# Altium schematic symbol library Schlib1.SchLib: 42 symbols (part 1 of 2)
Pins are listed as number, name and electrical type; pins without a type are passive.

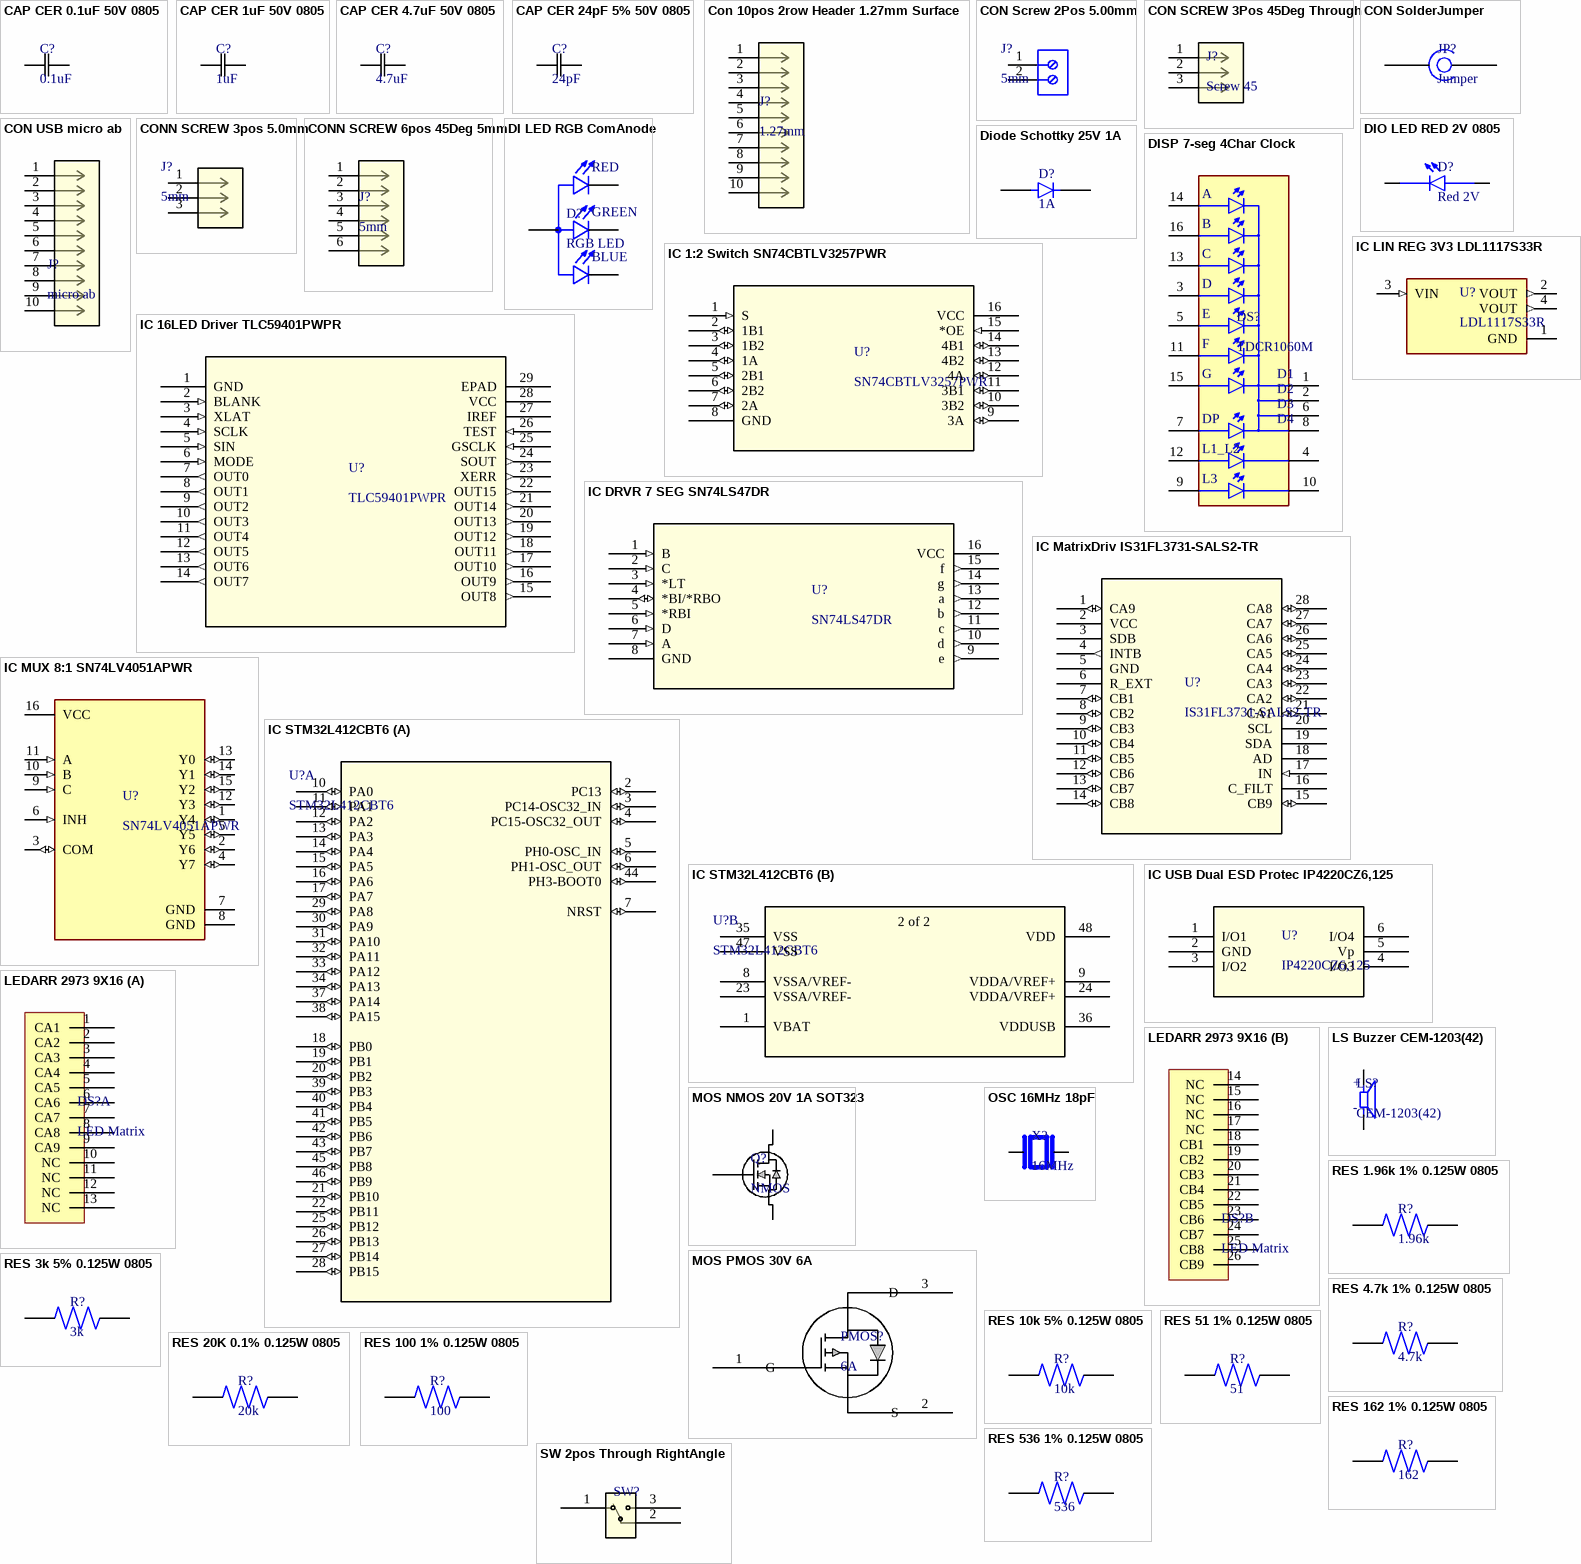
[diagram p0: symbols CAP CER 0.1uF 50V 0805 to SW 2pos Through RightAngle]

## CAP CER 0.1uF 50V 0805
designator C?, comment 0.1uF
Ceramic Capacitor, Multilayer, Ceramic, 50V, 10% +Tol, 10% -Tol, X7R, 15% TC, 0.1uF, Surface Mount, 0805; Manufacturer: Yageo; Manufacturer Part Number: CC0805KRX7R9BB104; Value: 100nF; Multilayer: Yes; Supplier: Digikey; Supplier Part Number: 311-1140-1-ND; RoHS: Yes; Category: Ceramic Capacitors; Stock: 2043650; Pricing: 1=0.08, 10=0.027, 100=0.0192, 1000=0.0136 (USD); Mounting Technology: Surface Mount; Pins: 2; Dielectric Material: Ceramic; Package Shape: Rectangular; Case/Package: 0805; Terminal Finish: Nickel; Min Operating Temperature: -55°C; Max Operating Temperature: 125°C; JESD-609 Code: e3; Capacitor Type: Ceramic; Tolerance  (fill in as +-): 10%; Package Style: SMTMeter; Packaging: Tape and Reel; Tolerance (fill in as +-): 10%; Rated DC Voltage (URdc): 50V; Temperature Characteristics Code: X7R; Termination: Wraparound; Length: 2mm; Width: 1.25mm; Height: 0.85mm; Reach SVHC Compliant: Yes; RoHS Compliant: Yes; ComponentLink1URL: https://datasheet.ciiva.com:443/pdfs/VipMasterIC/IC/YAGO/YAGO-S-A0003557223/YAGO-S-A0003557223-1.pdf?src-supplier=IHS+Markit; ComponentLink1Description: https://datasheet.ciiva.com:443/pdfs/VipMasterIC/IC/YAGO/YAGO-S-A0003557223/YAGO-S-A0003557223-1.pdf?src-supplier=IHS+Markit; ComponentLink2URL: https://datasheet.ciiva.com/11786/0900766b80d84f1d-11786009.pdf?src-supplier=Rs; ComponentLink2Description: https://datasheet.ciiva.com/11786/0900766b80d84f1d-11786009.pdf?src-supplier=Rs; ComponentLink3URL: https://datasheet.ciiva.com/11464/upy-gphc-x7r-6-3v-to-50v-8-11464757.pdf?src-supplier=Avnet; ComponentLink3Description: https://datasheet.ciiva.com/11464/upy-gphc-x7r-6-3v-to-50v-8-11464757.pdf?src-supplier=Avnet; ComponentLink4URL: https://datasheet.ciiva.com/155/mlccorderingcode-155930.pdf?src-supplier=Digikey; ComponentLink4Description: https://datasheet.ciiva.com/155/mlccorderingcode-155930.pdf?src-supplier=Digikey; ComponentLink5URL: https://datasheet.ciiva.com/28450/1489800-28450805.pdf?src-supplier=Element14; ComponentLink5Description: https://datasheet.ciiva.com/28450/1489800-28450805.pdf?src-supplier=Element14; ComponentLink6URL: https://datasheet.ciiva.com/46393/1734573-46393307.pdf?src-supplier=Element14; ComponentLink6Description: https://datasheet.ciiva.com/46393/1734573-46393307.pdf?src-supplier=Element14; ComponentLink7URL: https://datasheet.ciiva.com/155/mlccorderingcode-155929.pdf?src-supplier=Digikey; ComponentLink7Description: https://datasheet.ciiva.com/155/mlccorderingcode-155929.pdf?src-supplier=Digikey; ComponentLink8URL: https://datasheet.ciiva.com/155/mlccorderingcode-155931.pdf?src-supplier=Digikey; ComponentLink8Description: https://datasheet.ciiva.com/155/mlccorderingcode-155931.pdf?src-supplier=Digikey; ComponentLink9URL: https://datasheet.ciiva.com/29242/445210-da-01-en-kerko-chip-0805-x7r-0-1uf-10proz-50vg-29242074.pdf?src-supplier=Conrad; ComponentLink9Description: https://datasheet.ciiva.com/29242/445210-da-01-en-kerko-chip-0805-x7r-0-1uf-10proz-50vg-29242074.pdf?src-supplier=Conrad
footprint 0805
pins: 1, 2

## CAP CER 1uF 50V 0805
designator C?, comment 1uF
Ceramic Capacitor, Multilayer, Ceramic, 50V, 10% +Tol, 10% -Tol, X7R, 15% TC, 1uF, Surface Mount, 0805; Manufacturer: Samsung; Manufacturer Part Number: CL21B105KBFNNNE; Multilayer: Yes; Supplier: Digikey; Supplier Part Number: 1276-1029-1-ND; RoHS: Yes; Category: Ceramic Capacitors; Stock: 365183; Pricing: 1=0.08, 10=0.024, 100=0.016, 1000=0.01299 (USD); Mounting Technology: Surface Mount; Pins: 2; Dielectric Material: Ceramic; Package Shape: Rectangular; Case/Package: 0805; Terminal Finish: Nickel; Min Operating Temperature: -55°C; Max Operating Temperature: 125°C; JESD-609 Code: e3; Value: 1uF; Capacitor Type: Ceramic; Tolerance  (fill in as +-): 10%; Package Style: SMTMeter; Packaging: Tape and Reel; Tolerance (fill in as +-): 10%; Rated DC Voltage (URdc): 50V; Temperature Characteristics Code: X7R; Termination: Wraparound; Length: 2mm; Width: 1.25mm; Height: 1.35mm; Reach SVHC Compliant: Yes; RoHS Compliant: Yes; ComponentLink1URL: https://datasheet.ciiva.com:443/pdfs/VipMasterIC/IC/SEMS/SEMS-S-A0008524728/SEMS-S-A0008523023-1.pdf?src-supplier=IHS+Markit; ComponentLink1Description: https://datasheet.ciiva.com:443/pdfs/VipMasterIC/IC/SEMS/SEMS-S-A0008524728/SEMS-S-A0008523023-1.pdf?src-supplier=IHS+Markit; ComponentLink2URL: https://datasheet.ciiva.com/16449/cl21b105kbfnnne-16449003.pdf?src-supplier=Future+Electronics; ComponentLink2Description: https://datasheet.ciiva.com/16449/cl21b105kbfnnne-16449003.pdf?src-supplier=Future+Electronics; ComponentLink3URL: https://datasheet.ciiva.com/25800/cl21b105kbfnnne-25800291.pdf?src-supplier=Digikey; ComponentLink3Description: https://datasheet.ciiva.com/25800/cl21b105kbfnnne-25800291.pdf?src-supplier=Digikey
footprint 0805
pins: 1, 2

## CAP CER 4.7uF 50V 0805
designator C?, comment 4.7uF
Ceramic Capacitor, Multilayer, Ceramic, 25V, 10% +Tol, 10% -Tol, X5R, 15% TC, 4.7uF, Surface Mount, 0805; Manufacturer: Samsung; Manufacturer Part Number: CL21A475KAQNNNE; Multilayer: Yes; Supplier: Digikey; Supplier Part Number: 1276-1244-1-ND; RoHS: Yes; Category: Ceramic Capacitors; Stock: 2361940; Pricing: 1=0.1, 10=0.057, 100=0.0337, 1000=0.02199 (USD); Mounting Technology: Surface Mount; Pins: 2; Dielectric Material: Ceramic; Package Shape: Rectangular; Case/Package: 0805; Terminal Finish: Nickel; Min Operating Temperature: -55°C; Max Operating Temperature: 85°C; JESD-609 Code: e3; Value: 4.7uF; Capacitor Type: Ceramic; Tolerance  (fill in as +-): 10%; Package Style: SMTMeter; Packaging: Tape and Reel; Tolerance (fill in as +-): 10%; Rated DC Voltage (URdc): 25V; Temperature Characteristics Code: X5R; Termination: Wraparound; Length: 2mm; Width: 1.25mm; Height: 1.4mm; Reach SVHC Compliant: Yes; RoHS Compliant: Yes; ComponentLink1URL: https://datasheet.ciiva.com:443/pdfs/VipMasterIC/IC/SEMS/SEMS-S-A0008528919/SEMS-S-A0008528938-1.pdf?src-supplier=IHS+Markit; ComponentLink1Description: https://datasheet.ciiva.com:443/pdfs/VipMasterIC/IC/SEMS/SEMS-S-A0008528919/SEMS-S-A0008528938-1.pdf?src-supplier=IHS+Markit; ComponentLink2URL: https://datasheet.ciiva.com/25798/cl21a475kaqnnne-25798882.pdf?src-supplier=Digikey; ComponentLink2Description: https://datasheet.ciiva.com/25798/cl21a475kaqnnne-25798882.pdf?src-supplier=Digikey
footprint 0805
pins: 1, 2

## CAP CER 24pF 5% 50V 0805
designator C?, comment 24pF
CAP CER 24PF 50V NPO 0805; Manufacturer: Yageo; Manufacturer Part Number: CC0805JRNPO9BN240; Supplier: Digikey; Supplier Part Number: 311-4231-1-ND; RoHS: Yes; Category: Ceramic Capacitors; Stock: 4936; Pricing: 1=0.12, 10=0.067, 100=0.0407, 1000=0.02693 (USD); ComponentLink1URL: https://datasheet.ciiva.com/13263/upy-gp-np0-16v-to-50v-8-3714-13263821.pdf?src-supplier=Mouser; ComponentLink1Description: https://datasheet.ciiva.com/13263/upy-gp-np0-16v-to-50v-8-3714-13263821.pdf?src-supplier=Mouser
footprint 0805
pins: 1, 2

## Con 10pos 2row Header 1.27mm Surface
designator J?, comment 1.27mm
Power Field-Effect Transistor, 6A I(D), 30V, 0.042ohm, 1-Element, P-Channel, Silicon, Metal-oxide Semiconductor FET; Manufacturer: Toshiba; Manufacturer Part Number: SSM3J372R,LF; Supplier: Digikey; Supplier Part Number: SSM3J372RLFCT-ND; RoHS: No; Category: LDO; Stock: 78536; Pricing: 1=0.35, 10=0.212, 100=0.1187, 500=0.09766, 1000=0.09135 (USD)
footprint Con 10pin 2Row 1.27mm
pins: 1, 2, 3, 4, 5, 6, 7, 8, 9, 10

## CON Screw 2Pos 5.00mm
designator J?, comment 5mm
Barrier Strip Terminal Block; Manufacturer: Wurth Electronics; Manufacturer Part Number: 691137710002; Supplier: Digikey; Supplier Part Number: 732-10955-ND; RoHS: No; Category: Terminal Blocks; Stock: 25735; Pricing: 1=0.36, 10=0.327, 50=0.288, 100=0.2583, 500=0.2493 (USD); RoHS Compliant: Yes; ComponentLink1URL: https://datasheet.ciiva.com:443/pdfs/VipMasterIC/IC/MIDC/MIDC-S-A0005074262/MIDC-S-A0004711666-1.pdf?src-supplier=IHS+Markit; ComponentLink1Description: https://datasheet.ciiva.com:443/pdfs/VipMasterIC/IC/MIDC/MIDC-S-A0005074262/MIDC-S-A0004711666-1.pdf?src-supplier=IHS+Markit; ComponentLink2URL: https://katalog.we-online.de/em/datasheet/691137710002.pdf?src-supplier=Digikey; ComponentLink2Description: https://katalog.we-online.de/em/datasheet/691137710002.pdf?src-supplier=Digikey
footprint Con 2Pos Screw 5.00mm
pins: 1, 2

## CON SCREW 3Pos 45Deg Through
designator J?, comment Screw 45
Barrier Strip Terminal Block, 17.5A, 2.5mm2, 1 Row(s), 1 Deck(s); Manufacturer: Phoenix Contact; Manufacturer Part Number: 1988817; Number of Decks: 1; Number of Ways: 3; Voltage Rating: 250V; Wire/Cable Gauge: 14AWG; Safety Approval: UL; Supplier: Digikey; Supplier Part Number: 277-1765-ND; RoHS: Yes; Category: Terminal Blocks; Stock: 5169; Pricing: 1=0.96, 10=0.691, 25=0.602, 50=0.5748, 100=0.5664 (USD); Mounting Technology: Board; Manufacturer Series: 1988817; Fastening Method: SCREW; Number of Rows: 1; Current Rating: 17.5A; Terminal and Terminal Block Type: BARRIER STRIP TERMINAL BLOCK; Wire Cross Section: 2.5mm2; RoHS Compliant: Yes; Reach SVHC Compliant: No; ComponentLink1URL: https://datasheet.ciiva.com:443/pdfs/VipMasterIC/IC/PCON/PCONS10838/PCONS10838-1.pdf?src-supplier=IHS+Markit; ComponentLink1Description: https://datasheet.ciiva.com:443/pdfs/VipMasterIC/IC/PCON/PCONS10838/PCONS10838-1.pdf?src-supplier=IHS+Markit; ComponentLink2URL: https://datasheet.ciiva.com/16051/1988817-16051348.pdf?src-supplier=Onlinecomponents.com; ComponentLink2Description: https://datasheet.ciiva.com/16051/1988817-16051348.pdf?src-supplier=Onlinecomponents.com; ComponentLink3URL: https://datasheet.ciiva.com/823/combiconcompact5-0mmseries-823762.pdf?src-supplier=Digikey; ComponentLink3Description: https://datasheet.ciiva.com/823/combiconcompact5-0mmseries-823762.pdf?src-supplier=Digikey; ComponentLink4URL: https://datasheet.ciiva.com/29222/569647-da-01-en-printklemme-1988817-250-st-29222794.pdf?src-supplier=Conrad; ComponentLink4Description: https://datasheet.ciiva.com/29222/569647-da-01-en-printklemme-1988817-250-st-29222794.pdf?src-supplier=Conrad
footprint ScrewTerminal5mm 3Pos
pins: 1, 2, 3

## CON SolderJumper
designator JP?, comment Jumper
footprint SolderBridge
pins: 1, 2

## CON USB micro ab
designator J?, comment micro ab
USB Connector, 5 Contact(s), Female, Right Angle, Surface Mount Terminal, Locking, Receptacle; Manufacturer: Molex; Manufacturer Part Number: 47590-0001; Connector Type: TELECOM AND DATACOM CONNECTOR; Option: General Purpose; Additional Feature: Shielded; Board Mounting Option: PEG; Contact Resistance: 30mR; Dielectric Withstanding Voltage (AC): 141V; Durability: 10000Cycles; Empty Shell: No; Insulation Resistance: 1GR; Number Of Connectors: 1; PCB Contact Pattern: RECTANGULAR; Polarization Key: POLAR PIN POSITION; Rated Current (Signal): 1A; Number of Contacts: 5; Body Breadth: 0.118inch; Body Depth: 0.232inch; Body Length: 0.295inch; Reference Standard: UL; Reliability: COMMERCIAL; Supplier: Digikey; Supplier Part Number: WM17144CT-ND; RoHS: Yes; Category: USB Connectors; Stock: 37888; Pricing: 1=0.75, 10=0.636, 25=0.5964, 50=0.568, 100=0.5408, 250=0.50688, 500=0.48264 (USD); Mounting Technology: Cable; Contact Material: Copper Alloy; Contact Finish - Mating: GOLD; Contact Finish - Termination: Gold (Au); Insulation Material: Polymer; Shell Finish: Tin; Shell Material: Stainless Steel; Min Operating Temperature: -30°C; Max Operating Temperature: 85°C; JESD-609 Code: e4; Body/Shell Style: RECEPTACLE; Contact Gender: Female; Filter Feature: No; Mixed Contacts: No; Mounting Style: RIGHT ANGLE; Number Of PCB Rows: 1; Termination: SMD/SMT; Mounting Option 1: LOCKING; Terminal Pitch: 0.6604mm; Reach SVHC Compliant: Yes; RoHS Compliant: Yes; DIN Conformance: No; IEC Conformance: No; MIL Conformance: No; ComponentLink1URL: https://datasheet.ciiva.com:443/pdfs/VipMasterIC/IC/MOLE/MOLE-S-A0000442751/MOLE-S-A0000443003-1.pdf?src-supplier=IHS+Markit; ComponentLink1Description: https://datasheet.ciiva.com:443/pdfs/VipMasterIC/IC/MOLE/MOLE-S-A0000442751/MOLE-S-A0000443003-1.pdf?src-supplier=IHS+Markit; ComponentLink2URL: https://datasheet.ciiva.com/11731/0900766b80dfe0a6-11731294.pdf?src-supplier=Rs; ComponentLink2Description: https://datasheet.ciiva.com/11731/0900766b80dfe0a6-11731294.pdf?src-supplier=Rs; ComponentLink3URL: https://datasheet.ciiva.com/1098/1597781-1098479.pdf?src-supplier=Element14; ComponentLink3Description: https://datasheet.ciiva.com/1098/1597781-1098479.pdf?src-supplier=Element14; ComponentLink4URL: https://datasheet.ciiva.com/16148/0475900001-io-connectors-16148922.pdf?src-supplier=Onlinecomponents.com; ComponentLink4Description: https://datasheet.ciiva.com/16148/0475900001-io-connectors-16148922.pdf?src-supplier=Onlinecomponents.com
footprint USB micro ab 0475900001
pins: 1 VBUS, 2 D-, 3 D+, 4 ID, 5 GND (power), 6 SHIELD (power), 7 SHIELD (power), 8 SHIELD (power), 9 SHIELD (power), 10 SHIELD (power)

## CONN SCREW 3pos 5.0mm
designator J?, comment 5mm
Barrier Strip Terminal Block, 17.5A, 1.5mm2, 1 Row(s), 1 Deck(s); Manufacturer: Phoenix Contact; Manufacturer Part Number: 1935174; Fastening Method: SCREW; Number of Decks: 1; Number of Ways: 3; Voltage Rating: 250V; Wire/Cable Gauge: 14AWG; Safety Approval: UL; Supplier: Digikey; Supplier Part Number: 277-1578-ND; RoHS: Yes; Category: Terminal Blocks; Stock: 18353; Pricing: 1=1.04, 10=0.748, 25=0.6516, 50=0.5892, 100=0.5688 (USD); Mounting Technology: Board; Manufacturer Series: 1935174; Number of Rows: 1; Current Rating: 17.5A; Terminal and Terminal Block Type: BARRIER STRIP TERMINAL BLOCK; Wire Cross Section: 1.5mm2; RoHS Compliant: Yes; Reach SVHC Compliant: No; ComponentLink1URL: https://datasheet.ciiva.com:443/pdfs/VipMasterIC/IC/PCON/PCON-S-A0007661889/PCON-S-A0008047997-1.pdf?src-supplier=IHS+Markit; ComponentLink1Description: https://datasheet.ciiva.com:443/pdfs/VipMasterIC/IC/PCON/PCON-S-A0007661889/PCON-S-A0008047997-1.pdf?src-supplier=IHS+Markit; ComponentLink2URL: https://datasheet.ciiva.com/16047/1935174-16047249.pdf?src-supplier=Onlinecomponents.com; ComponentLink2Description: https://datasheet.ciiva.com/16047/1935174-16047249.pdf?src-supplier=Onlinecomponents.com; ComponentLink3URL: https://datasheet.ciiva.com/15169/getdatasheetpartid-212213-15169949.pdf?src-supplier=Verical; ComponentLink3Description: https://datasheet.ciiva.com/15169/getdatasheetpartid-212213-15169949.pdf?src-supplier=Verical; ComponentLink4URL: https://datasheet.ciiva.com/823/combiconcompact5-0mmseries-823761.pdf?src-supplier=Digikey; ComponentLink4Description: https://datasheet.ciiva.com/823/combiconcompact5-0mmseries-823761.pdf?src-supplier=Digikey; ComponentLink5URL: https://datasheet.ciiva.com/29218/744167-da-01-en-printklemme-pt-1-5-3-5-0-h-29218252.pdf?src-supplier=Conrad; ComponentLink5Description: https://datasheet.ciiva.com/29218/744167-da-01-en-printklemme-pt-1-5-3-5-0-h-29218252.pdf?src-supplier=Conrad
footprint CONN 3pos 5.00mm
pins: 1, 2, 3

## CONN SCREW 6pos 45Deg 5mm
designator J?, comment 5mm
Barrier Strip Terminal Block, 17.5A, 2.5mm2, 1 Row(s), 1 Deck(s); Manufacturer: Phoenix Contact; Manufacturer Part Number: 1988846; Fastening Method: SCREW; Number of Decks: 1; Number of Ways: 6; Voltage Rating: 250V; Wire/Cable Gauge: 14AWG; Safety Approval: UL; Supplier: Digikey; Supplier Part Number: 277-1768-ND; RoHS: Yes; Category: Terminal Blocks; Stock: 343; Pricing: 1=1.88, 10=1.345, 25=1.246, 50=1.2338 (USD); Mounting Technology: Board; Manufacturer Series: 1988846; Number of Rows: 1; Current Rating: 17.5A; Terminal and Terminal Block Type: BARRIER STRIP TERMINAL BLOCK; Wire Cross Section: 2.5mm2; RoHS Compliant: Yes; Reach SVHC Compliant: No; ComponentLink1URL: https://datasheet.ciiva.com:443/pdfs/VipMasterIC/IC/PCON/PCONS10841/PCONS10841-1.pdf?src-supplier=IHS+Markit; ComponentLink1Description: https://datasheet.ciiva.com:443/pdfs/VipMasterIC/IC/PCON/PCONS10841/PCONS10841-1.pdf?src-supplier=IHS+Markit; ComponentLink2URL: https://datasheet.ciiva.com/16051/1988846-16051352.pdf?src-supplier=Onlinecomponents.com; ComponentLink2Description: https://datasheet.ciiva.com/16051/1988846-16051352.pdf?src-supplier=Onlinecomponents.com; ComponentLink3URL: https://datasheet.ciiva.com/14820/1988846-14820464.pdf?src-supplier=Arrow+Electronics; ComponentLink3Description: https://datasheet.ciiva.com/14820/1988846-14820464.pdf?src-supplier=Arrow+Electronics; ComponentLink4URL: https://datasheet.ciiva.com/26340/567909-da-01-nl-printklem-1988846-100-st-26340596.pdf?src-supplier=Conrad; ComponentLink4Description: https://datasheet.ciiva.com/26340/567909-da-01-nl-printklem-1988846-100-st-26340596.pdf?src-supplier=Conrad; ComponentLink5URL: https://datasheet.ciiva.com/14610/70055186-14610565.pdf?src-supplier=Allied+Electronics; ComponentLink5Description: https://datasheet.ciiva.com/14610/70055186-14610565.pdf?src-supplier=Allied+Electronics; ComponentLink6URL: https://datasheet.ciiva.com/823/combiconcompact5-0mmseries-823782.pdf?src-supplier=Digikey; ComponentLink6Description: https://datasheet.ciiva.com/823/combiconcompact5-0mmseries-823782.pdf?src-supplier=Digikey
footprint CON 6pos Screw 5.00mm
pins: 1, 2, 3, 4, 5, 6

## DI LED RGB ComAnode
designator D?, comment RGB LED
Visible LED; Manufacturer: Cree; Manufacturer Part Number: CLMVC-FKA-CL1D1L71BB7C3C3; Optoelectronic Device Type: TRIPLE COLOR LED; Supplier: Digikey; Supplier Part Number: CLMVC-FKA-CL1D1L71BB7C3C3CT-ND; RoHS: Yes; Category: LEDs; Stock: 54235; Pricing: 1=0.23, 10=0.212, 100=0.1961, 1000=0.175 (USD); RoHS Compliant: Yes; ComponentLink1URL: https://datasheet.ciiva.com:443/pdfs/VipMasterIC/IC/CREE/CREE-S-A0009778054/CREE-S-A0009830979-1.pdf?src-supplier=IHS+Markit; ComponentLink1Description: https://datasheet.ciiva.com:443/pdfs/VipMasterIC/IC/CREE/CREE-S-A0009778054/CREE-S-A0009830979-1.pdf?src-supplier=IHS+Markit; ComponentLink2URL: http://www.farnell.com/datasheets/2813774.pdf?src-supplier=Farnell; ComponentLink2Description: http://www.farnell.com/datasheets/2813774.pdf?src-supplier=Farnell; ComponentLink3URL: http://www.mouser.com/ds/2/90/1273-CLMVC-FKA-1064221.pdf?src-supplier=Mouser; ComponentLink3Description: http://www.mouser.com/ds/2/90/1273-CLMVC-FKA-1064221.pdf?src-supplier=Mouser; ComponentLink4URL: http://www.farnell.com/datasheets/2813774.pdf?src-supplier=Newark; ComponentLink4Description: http://www.farnell.com/datasheets/2813774.pdf?src-supplier=Newark; ComponentLink5URL: http://www.farnell.com/datasheets/2813774.pdf?src-supplier=Element14; ComponentLink5Description: http://www.farnell.com/datasheets/2813774.pdf?src-supplier=Element14; ComponentLink6URL: http://www.cree.com/led-components/media/documents/1273-CLMVC-FKA.pdf?src-supplier=Digikey; ComponentLink6Description: http://www.cree.com/led-components/media/documents/1273-CLMVC-FKA.pdf?src-supplier=Digikey; ComponentLink7URL: https://www.cree.com/led-components/media/documents/1273-CLMVC-FKA.pdf?src-supplier=Digikey; ComponentLink7Description: https://www.cree.com/led-components/media/documents/1273-CLMVC-FKA.pdf?src-supplier=Digikey
footprint RBG LED 4-SMD
pins: 1 A, 2 B_C, 3 G_C, 4 R_C
text: RED; GREEN; BLUE

## DIO LED RED 2V 0805
designator D?, comment Red 2V
Single Color LED, Red Orange, Water Clear, 1.4mm; Manufacturer: Vishay Lite-On; Manufacturer Part Number: LTST-C170KAKT; Color: Red,Orange; Shape: Rectangular; Forward Current: 30mA; Forward Voltage: 2.4V; Luminous Intensity-Nom: 55mcd; Channels: 1; Reverse Voltage-Max: 5V; Viewing Angle: 130°; Overall Height: 1.1mm; Supplier: Digikey; Supplier Part Number: 160-1412-1-ND; RoHS: Yes; Category: LEDs; Stock: 5192; Pricing: 1=0.22, 10=0.153, 100=0.1065, 500=0.08542, 1000=0.07842 (USD); Mounting Technology: Surface Mount; Pins: 2; Color@wavelength: Orange; Min Operating Temperature: -55°C; Max Operating Temperature: 85°C; Lens Style: WATER CLEAR; Optoelectronic Device Type: SINGLE COLOR LED; Packaging: Tape and Reel; Size: 1.4mm; Terminal Pitch: 2.1mm; Reach SVHC Compliant: Yes; RoHS Compliant: Yes; ComponentLink1URL: https://datasheet.ciiva.com:443/pdfs/VipMasterIC/IC/LITE/LITES11806/LITES11806-1.pdf?src-supplier=IHS+Markit; ComponentLink1Description: https://datasheet.ciiva.com:443/pdfs/VipMasterIC/IC/LITE/LITES11806/LITES11806-1.pdf?src-supplier=IHS+Markit; ComponentLink2URL: https://datasheet.ciiva.com/2110/ltst-c170kakt-2110491.pdf?src-supplier=Digikey; ComponentLink2Description: https://datasheet.ciiva.com/2110/ltst-c170kakt-2110491.pdf?src-supplier=Digikey; ComponentLink3URL: https://datasheet.ciiva.com/12403/ltstc170kaktliteon-201792-12403844.pdf?src-supplier=Mouser; ComponentLink3Description: https://datasheet.ciiva.com/12403/ltstc170kaktliteon-201792-12403844.pdf?src-supplier=Mouser; ComponentLink4URL: https://datasheet.ciiva.com/2110/s-110-ltst-c170kakt-2110492.pdf?src-supplier=Digikey; ComponentLink4Description: https://datasheet.ciiva.com/2110/s-110-ltst-c170kakt-2110492.pdf?src-supplier=Digikey; ComponentLink5URL: https://datasheet.ciiva.com/2110/s-110-ltst-c170kakt-2110493.pdf?src-supplier=Digikey; ComponentLink5Description: https://datasheet.ciiva.com/2110/s-110-ltst-c170kakt-2110493.pdf?src-supplier=Digikey
footprint 0805
pins: 1 A, 2 C

## Diode Schottky 25V 1A
designator D?, comment 1A
Rectifier Diode, Schottky, 1 Phase, 1 Element, 1A, 25V V(RRM), Silicon; Manufacturer: Rohm; Manufacturer Part Number: RB161MM-20TR; Package Body Material: Plastic; Additional Feature: HIGH RELIABILITY; Forward Voltage: 320mV; Non-rep Pk Forward Current-Max: 30A; Number of Elements: 1; Supplier: Digikey; Supplier Part Number: RB161MM-20CT-ND; RoHS: Yes; Category: Schottky Diodes; Stock: 16963; Pricing: 1=0.48, 10=0.297, 100=0.1885, 500=0.14128, 1000=0.12601 (USD); Pins: 2; Diode Element Material: SILICON; Package Shape: Rectangular; Max Operating Temperature: 125°C; Diode Type: RECTIFIER; JESD-30 Code: R-PDSO-F2; Moisture Sensitivity Level: 1; Max Output current: 1A; Package Style: SMALL OUTLINEMeter; Rep Pk Reverse Voltage-Max: 25V; Surface Mount: Yes; Technology: SCHOTTKY; Terminal Form: Flat; Terminal Position: DUAL; Reach SVHC Compliant: Yes; RoHS Compliant: Yes; ComponentLink1URL: https://datasheet.ciiva.com:443/pdfs/VipMasterIC/IC/ROHM/ROHM-S-A0008264857/ROHM-S-A0008264857-1.pdf?src-supplier=IHS+Markit; ComponentLink1Description: https://datasheet.ciiva.com:443/pdfs/VipMasterIC/IC/ROHM/ROHM-S-A0008264857/ROHM-S-A0008264857-1.pdf?src-supplier=IHS+Markit; ComponentLink2URL: http://www.farnell.com/datasheets/2646198.pdf?src-supplier=Farnell; ComponentLink2Description: http://www.farnell.com/datasheets/2646198.pdf?src-supplier=Farnell; ComponentLink3URL: http://datasheet.octopart.com/RB161MM-20TR-Rohm-datasheet-138897563.pdf?src-supplier=Digikey; ComponentLink3Description: http://datasheet.octopart.com/RB161MM-20TR-Rohm-datasheet-138897563.pdf?src-supplier=Digikey; ComponentLink4URL: http://rohmfs.rohm.com/en/techdata_basic/diode/taping/Taping_PMDU(M)_TR-e.pdf?src-supplier=Digikey; ComponentLink4Description: http://rohmfs.rohm.com/en/techdata_basic/diode/taping/Taping_PMDU(M)_TR-e.pdf?src-supplier=Digikey; ComponentLink5URL: http://datasheet.octopart.com/RB161MM-20TR-Rohm-datasheet-138897563.pdf?src-supplier=Avnet; ComponentLink5Description: http://datasheet.octopart.com/RB161MM-20TR-Rohm-datasheet-138897563.pdf?src-supplier=Avnet; ComponentLink6URL: http://datasheet.octopart.com/RB161MM-20TR-Rohm-datasheet-138897563.pdf?src-supplier=Mouser; ComponentLink6Description: http://datasheet.octopart.com/RB161MM-20TR-Rohm-datasheet-138897563.pdf?src-supplier=Mouser; ComponentLink7URL: http://www.farnell.com/datasheets/2646198.pdf?src-supplier=Newark; ComponentLink7Description: http://www.farnell.com/datasheets/2646198.pdf?src-supplier=Newark; ComponentLink8URL: http://datasheet.octopart.com/RB161MM-20TR-Rohm-datasheet-138897563.pdf?src-supplier=Rs; ComponentLink8Description: http://datasheet.octopart.com/RB161MM-20TR-Rohm-datasheet-138897563.pdf?src-supplier=Rs; ComponentLink9URL: https://datasheet.octopart.com/RB161MM-20TR-Rohm-datasheet-97465509.pdf?src-supplier=Future+Electronics; ComponentLink9Description: https://datasheet.octopart.com/RB161MM-20TR-Rohm-datasheet-97465509.pdf?src-supplier=Future+Electronics; ComponentLink10URL: http://datasheet.octopart.com/RB161MM-20TR-Rohm-datasheet-138897563.pdf?src-supplier=Quest; ComponentLink10Description: http://datasheet.octopart.com/RB161MM-20TR-Rohm-datasheet-138897563.pdf?src-supplier=Quest; ComponentLink11URL: http://datasheet.octopart.com/RB161MM-20TR-Rohm-datasheet-138897563.pdf?src-supplier=TTI; ComponentLink11Description: http://datasheet.octopart.com/RB161MM-20TR-Rohm-datasheet-138897563.pdf?src-supplier=TTI
footprint SOD-123F Diode Schottky
pins: 1 C, 2 A

## DISP 7-seg 4Char Clock
designator DS?, comment TDCR1060M
Clock LED Display, 4-Character, Red, 10mm; Manufacturer: Vishay; Forward Current: 25mA; Forward Voltage: 2.4V; Number of Characters: 4; Supplier: Digikey; Supplier Part Number: TDCR1060M-ND; Manufacturer Part Number: TDCR1060M; RoHS: Yes; Category: Optoelectronics; Stock: 3748; Pricing: 1=3.34, 12=2.39083, 108=1.8975, 504=1.67593, 1008=1.59991, 2004=1.53608, 5004=1.46597 (USD); Color: Red; Color@wavelength: Red; Min Operating Temperature: -40°C; Max Operating Temperature: 85°C; Display Height: 10mm; Channels: 4; Optoelectronic Device Type: CLOCK LED DISPLAY; RoHS Compliant: Yes; ComponentLink1URL: https://datasheet.ciiva.com:443/pdfs/VipMasterIC/IC/VISH/VISH-S-A0003301798/VISH-S-A0004391181-1.pdf?src-supplier=IHS+Markit; ComponentLink1Description: https://datasheet.ciiva.com:443/pdfs/VipMasterIC/IC/VISH/VISH-S-A0003301798/VISH-S-A0004391181-1.pdf?src-supplier=IHS+Markit; ComponentLink2URL: https://datasheet.ciiva.com/18549/tdc10m-18549753.pdf?src-supplier=Digikey; ComponentLink2Description: https://datasheet.ciiva.com/18549/tdc10m-18549753.pdf?src-supplier=Digikey
footprint 16-DIP 4Char-7Seg
pins: 1 D1, 2 D2, 3 D, 4, 5 E, 6 D3, 7 DP, 8 D4, 9 L3, 10, 11 F, 12 L1_L2, 13 C, 14 A, 15 G, 16 B

## IC 1:2 Switch SN74CBTLV3257PWR
designator U?, comment SN74CBTLV3257PWR
Multiplexer And Demux/Decoder, CBTLV/3B Series, 4-Func, 1 Line Input, 2 Line Output, True Output, CMOS, PDSO16; Manufacturer: Texas Instruments; Package Body Material: Plastic; Channels: 4; Number of Inputs: 1; Number of Outputs: 2; Output Characteristics: 3-STATE; Package Equivalence Code: TSSOP16,.25; Power Supplies: 2.5/3.3V; Propagation Delay (tpd): 0.25ns; Max Supply Voltage: 3.6V; Min Supply Voltage: 2.3V; Nominal Supply Voltage: 2.5V; Qualification Status: Not Qualified; Supplier: Digikey; Supplier Part Number: 296-9138-1-ND; Manufacturer Part Number: SN74CBTLV3257PWR; RoHS: Yes; Category: Decoders and Multiplexers; Stock: 30419; Pricing: 1=0.45, 10=0.314, 25=0.2804, 100=0.2431, 250=0.22532, 500=0.21458, 1000=0.20655 (USD); Case/Package: TSSOP; Pins: 16; Package Shape: Rectangular; Terminal Finish: Tin; Min Operating Temperature: -40°C; Max Operating Temperature: 85°C; JESD-609 Code: e3; Output Polarity: True; JESD-30 Code: R-PDSO-G16; Logic Type: MULTIPLEXER AND DEMUX/DECODER; Moisture Sensitivity Level: 1; Package Style: SMALL OUTLINE, THIN PROFILE, SHRINK PITCHMeter; Peak Reflow Temperature (Cel): 260°C; Surface Mount: Yes; Technology: CMOS; Terminal Form: Gull Wing; Terminal Position: DUAL; Length: 5mm; Width: 4.4mm; Height - Seated (Max): 1.2mm; Terminal Pitch: 0.65mm; Temperature Grade: INDUSTRIAL; Reach SVHC Compliant: Yes; RoHS Compliant: Yes; ComponentLink1URL: https://www.ti.com:443/lit/ds/symlink/sn74cbtlv3257.pdf?src-supplier=IHS+Markit; ComponentLink1Description: https://www.ti.com:443/lit/ds/symlink/sn74cbtlv3257.pdf?src-supplier=IHS+Markit; ComponentLink2URL: https://datasheet.ciiva.com/15096/getdatasheetpartid-475832-15096886.pdf?src-supplier=Verical; ComponentLink2Description: https://datasheet.ciiva.com/15096/getdatasheetpartid-475832-15096886.pdf?src-supplier=Verical; ComponentLink3URL: https://datasheet.ciiva.com/34301/914507-34301751.pdf?src-supplier=Jameco; ComponentLink3Description: https://datasheet.ciiva.com/34301/914507-34301751.pdf?src-supplier=Jameco; ComponentLink4URL: https://datasheet.ciiva.com/41457/001016561-da-01-en-ic-4b-1of-sn74cbtlv3257pwr-tssop-16-tid-41457145.pdf?src-supplier=Conrad; ComponentLink4Description: https://datasheet.ciiva.com/41457/001016561-da-01-en-ic-4b-1of-sn74cbtlv3257pwr-tssop-16-tid-41457145.pdf?src-supplier=Conrad; ComponentLink5URL: https://datasheet.ciiva.com/1509/1634002-1509116.pdf?src-supplier=Element14; ComponentLink5Description: https://datasheet.ciiva.com/1509/1634002-1509116.pdf?src-supplier=Element14; ComponentLink6URL: https://datasheet.ciiva.com/46395/1882419-46395595.pdf?src-supplier=Element14; ComponentLink6Description: https://datasheet.ciiva.com/46395/1882419-46395595.pdf?src-supplier=Element14; ComponentLink7URL: https://datasheet.ciiva.com/3169/sn74cbtlv3257-3169116.pdf?src-supplier=Avnet; ComponentLink7Description: https://datasheet.ciiva.com/3169/sn74cbtlv3257-3169116.pdf?src-supplier=Avnet; ComponentLink8URL: https://datasheet.ciiva.com/3169/sn74cbtlv3257-3169117.pdf?src-supplier=Avnet; ComponentLink8Description: https://datasheet.ciiva.com/3169/sn74cbtlv3257-3169117.pdf?src-supplier=Avnet; ComponentLink9URL: https://datasheet.ciiva.com/1888/sn74cbtlv3257-1888771.pdf?src-supplier=Digikey; ComponentLink9Description: https://datasheet.ciiva.com/1888/sn74cbtlv3257-1888771.pdf?src-supplier=Digikey; ComponentLink10URL: https://datasheet.ciiva.com/1888/sn74cbtlv3257-1888772.pdf?src-supplier=Digikey; ComponentLink10Description: https://datasheet.ciiva.com/1888/sn74cbtlv3257-1888772.pdf?src-supplier=Digikey; ComponentLink11URL: https://datasheet.ciiva.com/1888/sn74cbtlv3257-1888773.pdf?src-supplier=Digikey; ComponentLink11Description: https://datasheet.ciiva.com/1888/sn74cbtlv3257-1888773.pdf?src-supplier=Digikey
footprint 16-TSSOP 1:2 switch SN74CBTLV3257PWR
pins: 1 S (in), 2 1B1 (io), 3 1B2 (io), 4 1A (io), 5 2B1 (io), 6 2B2 (io), 7 2A (io), 8 GND (power), 9 3A (io), 10 3B2 (io), 11 3B1 (io), 12 4A (io), 13 4B2 (io), 14 4B1 (io), 15 *OE (in), 16 VCC (power)

## IC 16LED Driver TLC59401PWPR
designator U?, comment TLC59401PWPR
LED Driver, 16-Segment, PDSO28; Manufacturer: Texas Instruments; Package Body Material: Plastic; Data Input Mode: SERIAL; fmax-Min: 30MHz; Interface IC Type: LED DISPLAY DRIVER; Multiplexed Display Capability: No; Channels: 1; Number of Segments: 16; Package Equivalence Code: TSSOP28,.25; Power Supplies: 3.3/5V; Max Supply Voltage: 5.5V; Min Supply Voltage: 3V; Nominal Supply Voltage: 5V; Qualification Status: Not Qualified; Supplier: Digikey; Supplier Part Number: 296-25565-1-ND; Manufacturer Part Number: TLC59401PWPR; RoHS: Yes; Category: LED Drivers; Stock: 2649; Pricing: 1=2.56, 10=1.902, 25=1.7388, 100=1.5588, 250=1.47304, 500=1.42132, 1000=1.37876 (USD); Case/Package: HTSSOP; Pins: 28; Package Shape: Rectangular; Terminal Finish: Nickel; Min Operating Temperature: -40°C; Max Operating Temperature: 85°C; JESD-609 Code: e4; JESD-30 Code: R-PDSO-G28; Moisture Sensitivity Level: 2; Package Style: SMALL OUTLINEMeter; Peak Reflow Temperature (Cel): 260°C; Surface Mount: Yes; Terminal Form: Gull Wing; Terminal Position: DUAL; Length: 9.7mm; Width: 4.4mm; Height - Seated (Max): 1.2mm; Terminal Pitch: 0.65mm; Temperature Grade: INDUSTRIAL; Reach SVHC Compliant: Yes; RoHS Compliant: Yes; ComponentLink1URL: https://www.ti.com:443/lit/ds/symlink/tlc59401.pdf?src-supplier=IHS+Markit; ComponentLink1Description: https://www.ti.com:443/lit/ds/symlink/tlc59401.pdf?src-supplier=IHS+Markit; ComponentLink2URL: https://datasheet.ciiva.com/1945/tlc59401-1945872.pdf?src-supplier=Digikey; ComponentLink2Description: https://datasheet.ciiva.com/1945/tlc59401-1945872.pdf?src-supplier=Digikey; ComponentLink3URL: https://datasheet.ciiva.com/15135/getdatasheetpartid-530850-15135421.pdf?src-supplier=Verical; ComponentLink3Description: https://datasheet.ciiva.com/15135/getdatasheetpartid-530850-15135421.pdf?src-supplier=Verical; ComponentLink4URL: https://datasheet.ciiva.com/3165/tlc59401-3165430.pdf?src-supplier=Avnet; ComponentLink4Description: https://datasheet.ciiva.com/3165/tlc59401-3165430.pdf?src-supplier=Avnet; ComponentLink5URL: https://datasheet.ciiva.com/1945/tlc59401-1945871.pdf?src-supplier=Digikey; ComponentLink5Description: https://datasheet.ciiva.com/1945/tlc59401-1945871.pdf?src-supplier=Digikey; ComponentLink6URL: https://datasheet.ciiva.com/1945/tlc59401-1945873.pdf?src-supplier=Digikey; ComponentLink6Description: https://datasheet.ciiva.com/1945/tlc59401-1945873.pdf?src-supplier=Digikey
footprint 28-HTSSOP 16LED Driver
pins: 1 GND (power), 2 BLANK (in), 3 XLAT (in), 4 SCLK (in), 5 SIN (in), 6 MODE (in), 7 OUT0 (out), 8 OUT1 (out), 9 OUT2 (out), 10 OUT3 (out), 11 OUT4 (out), 12 OUT5 (out), 13 OUT6 (out), 14 OUT7 (out), 15 OUT8 (out), 16 OUT9 (out), 17 OUT10 (out), 18 OUT11 (out), 19 OUT12 (out), 20 OUT13 (out), 21 OUT14 (out), 22 OUT15 (out), 23 XERR (out), 24 SOUT (out), 25 GSCLK (in), 26 TEST (in), 27 IREF, 28 VCC (power), 29 EPAD

## IC DRVR 7 SEG SN74LS47DR
designator U?, comment SN74LS47DR
Seven Segment Decoder/Driver, LS Series, Inverted Output, TTL, PDSO16; Manufacturer: Texas Instruments; Package Body Material: Plastic; Input Conditioning: STANDARD; Load Capacitance (CL): 15pF; Channels: 1; Output Characteristics: OPEN-COLLECTOR; Power Supply Current-Max (ICC): 13mA; Propagation Delay (tpd): 100ns; Max Supply Voltage: 5.5V; Min Supply Voltage: 4.75V; Nominal Supply Voltage: 5V; Qualification Status: Not Qualified; Supplier: Digikey; Supplier Part Number: 296-46894-1-ND; Manufacturer Part Number: SN74LS47DR; RoHS: Yes; Category: Integrated Circuits (ICs); Stock: 3469; Pricing: 1=1.33, 10=0.967, 25=0.876, 100=0.7762, 250=0.72848, 500=0.70992 (USD); Case/Package: SOP; Pins: 16; Package Shape: Rectangular; Terminal Finish: Nickel; Min Operating Temperature: 0°C; Max Operating Temperature: 70°C; JESD-609 Code: e4; Output Polarity: INVERTED; JESD-30 Code: R-PDSO-G16; Logic Type: SEVEN SEGMENT DECODER/DRIVER; Moisture Sensitivity Level: 1; Package Style: SMALL OUTLINEMeter; Peak Reflow Temperature (Cel): 260°C; Surface Mount: Yes; Technology: TTL; Terminal Form: Gull Wing; Terminal Position: DUAL; Length: 9.9mm; Width: 3.9mm; Height - Seated (Max): 1.75mm; Terminal Pitch: 1.27mm; Temperature Grade: COMMERCIAL; Reach SVHC Compliant: Yes; RoHS Compliant: Yes; ComponentLink1URL: https://www.ti.com:443/lit/ds/symlink/sn5447a.pdf?src-supplier=IHS+Markit; ComponentLink1Description: https://www.ti.com:443/lit/ds/symlink/sn5447a.pdf?src-supplier=IHS+Markit; ComponentLink2URL: https://datasheet.ciiva.com/14293/sn74ls47-14293676.pdf?src-supplier=Avnet; ComponentLink2Description: https://datasheet.ciiva.com/14293/sn74ls47-14293676.pdf?src-supplier=Avnet
footprint 16-SOIC 7-seg Driver
pins: 1 B (in), 2 C (in), 3 *LT (in), 4 *BI/*RBO (io), 5 *RBI (in), 6 D (in), 7 A (in), 8 GND (power), 9 e (out), 10 d (out), 11 c (out), 12 b (out), 13 a (out), 14 g (out), 15 f (out), 16 VCC (power)

## IC LIN REG 3V3 LDL1117S33R
designator U?, comment LDL1117S33R
Fixed Positive LDO Regulator, 3.3V, 0.6V Dropout, PDSO4; Manufacturer: STMicroelectronics; Package Body Material: Plastic; Channels: 1; Dropout Voltage1-Max: 600mV; Max Supply Voltage: 18V; Min Input Voltage: 4.3V; Output Current1-Max: 1.2A; Output Voltage1-Max: 3.399V; Output Voltage1-Min: 3.201V; Regulator Type: FIXED POSITIVE SINGLE OUTPUT LDO REGULATOR; Supplier: Digikey; Supplier Part Number: 497-17239-1-ND; Manufacturer Part Number: LDL1117S33R; RoHS: Yes; Category: Voltage Regulators - Linear; Stock: 71269; Pricing: 1=0.36, 10=0.251, 25=0.2232, 100=0.1926, 250=0.178, 500=0.16922, 1000=0.16199 (USD); Case/Package: SOP; Pins: 4; Package Shape: Rectangular; Package Style: SMALL OUTLINEMeter; Surface Mount: Yes; JESD-30 Code: R-PDSO-G4; Operating Temperature, TJ-Max: 125°C; Operating Temperature, TJ-Min: -40°C; Output Voltage1-Nom: 3.3V; Terminal Form: Gull Wing; Terminal Position: DUAL; Length: 6.5mm; Width: 3.5mm; Height - Seated (Max): 1.9mm; Terminal Pitch: 2.3mm; Reach SVHC Compliant: Yes; RoHS Compliant: Yes; ComponentLink1URL: https://datasheet.ciiva.com:443/pdfs/VipMasterIC/IC/SGST/SGST-S-A0010030722/SGST-S-A0010030722-1.pdf?src-supplier=IHS+Markit; ComponentLink1Description: https://datasheet.ciiva.com:443/pdfs/VipMasterIC/IC/SGST/SGST-S-A0010030722/SGST-S-A0010030722-1.pdf?src-supplier=IHS+Markit; ComponentLink2URL: http://www.farnell.com/datasheets/2259188.pdf?src-supplier=Farnell; ComponentLink2Description: http://www.farnell.com/datasheets/2259188.pdf?src-supplier=Farnell; ComponentLink3URL: http://www.st.com/content/ccc/resource/technical/document/datasheet/group3/0e/5a/00/ca/10/1a/4f/a5/DM00366442/files/DM00366442.pdf/jcr:content/translations/en.DM00366442.pdf?src-supplier=Digikey; ComponentLink3Description: http://www.st.com/content/ccc/resource/technical/document/datasheet/group3/0e/5a/00/ca/10/1a/4f/a5/DM00366442/files/DM00366442.pdf/jcr:content/translations/en.DM00366442.pdf?src-supplier=Digikey; ComponentLink4URL: http://www.farnell.com/datasheets/2259188.pdf?src-supplier=Element14; ComponentLink4Description: http://www.farnell.com/datasheets/2259188.pdf?src-supplier=Element14
footprint SOT-223 Lin Reg 3V3
pins: 1 GND (power), 2 VOUT (out), 3 VIN (in), 4 VOUT (out)

## IC MatrixDriv IS31FL3731-SALS2-TR
designator U?, comment IS31FL3731-SALS2-TR
LED Driver, 144-Segment, PDSO28; Manufacturer: ISSI; Interface IC Type: LED DISPLAY DRIVER; Supplier: Digikey; Supplier Part Number: 2521-IS31FL3731-SALS2-TRCT-ND; Manufacturer Part Number: IS31FL3731-SALS2-TR; RoHS: Yes; Category: Integrated Circuits (ICs); Stock: 791; Pricing: 1=2.67, 10=1.682, 25=1.4248, 100=1.1332, 250=0.99012, 500=0.90206, 1000=0.82831 (USD); Reach SVHC Compliant: Yes; RoHS Compliant: Yes
footprint 28-SSOP LED Matrix Driver
pins: 1 CA9 (io), 2 VCC (power), 3 SDB, 4 INTB (out), 5 GND (power), 6 R_EXT, 7 CB1 (io), 8 CB2 (io), 9 CB3 (io), 10 CB4 (io), 11 CB5 (io), 12 CB6 (io), 13 CB7 (io), 14 CB8 (io), 15 CB9 (io), 16 C_FILT, 17 IN (in), 18 AD, 19 SDA, 20 SCL, 21 CA1 (io), 22 CA2 (io), 23 CA3 (io), 24 CA4 (io), 25 CA5 (io), 26 CA6 (io), 27 CA7 (io), 28 CA8 (io)

## IC MUX 8:1 SN74LV4051APWR
designator U?, comment SN74LV4051APWR
Single-Ended Multiplexer, 1 Func, 8 Channel, CMOS, PDSO16; Manufacturer: Texas Instruments; Package Body Material: Plastic; Number of Channels: 8; Channels: 1; Off-state Isolation-Nom: 45dB; On-state Resistance Match-Nom: 2.1R; On-state Resistance-Max (Ron): 180R; Package Equivalence Code: TSSOP16,.25; Power Supplies: 3.3V; Signal Current-Max: 50mA; Supply Current-Max (Isup): 20uA; Max Supply Voltage: 5.5V; Min Supply Voltage: 2V; Nominal Supply Voltage: 2.3V; Switch-off Time-Max: 28ns; Qualification Status: Not Qualified; Supplier: Digikey; Supplier Part Number: 296-3829-1-ND; Manufacturer Part Number: SN74LV4051APWR; RoHS: Yes; Category: Decoders and Multiplexers; Stock: 20567; Pricing: 1=0.27, 10=0.189, 25=0.1672, 100=0.1435, 250=0.13224, 500=0.12538, 1000=0.11977 (USD); Case/Package: TSSOP; Pins: 16; Package Shape: Rectangular; Terminal Finish: Tin; Min Operating Temperature: -40°C; Max Operating Temperature: 85°C; JESD-609 Code: e3; Throw Configuration: SINGLE-ENDED MULTIPLEXER; JESD-30 Code: R-PDSO-G16; Moisture Sensitivity Level: 1; Package Style: SMALL OUTLINE, THIN PROFILE, SHRINK PITCHMeter; Peak Reflow Temperature (Cel): 260°C; Surface Mount: Yes; Switch-on Time-Max: 28ns; Technology: CMOS; Terminal Form: Gull Wing; Terminal Position: DUAL; Length: 5mm; Width: 4.4mm; Height - Seated (Max): 1.2mm; Terminal Pitch: 0.65mm; Temperature Grade: INDUSTRIAL; Reach SVHC Compliant: Yes; RoHS Compliant: Yes; ComponentLink1URL: https://www.ti.com:443/lit/ds/symlink/sn74lv4051a.pdf?src-supplier=IHS+Markit; ComponentLink1Description: https://www.ti.com:443/lit/ds/symlink/sn74lv4051a.pdf?src-supplier=IHS+Markit; ComponentLink2URL: https://datasheet.ciiva.com/27051/1026350-27051257.pdf?src-supplier=Jameco; ComponentLink2Description: https://datasheet.ciiva.com/27051/1026350-27051257.pdf?src-supplier=Jameco; ComponentLink3URL: https://datasheet.ciiva.com/15127/getdatasheetpartid-300450-15127659.pdf?src-supplier=Verical; ComponentLink3Description: https://datasheet.ciiva.com/15127/getdatasheetpartid-300450-15127659.pdf?src-supplier=Verical; ComponentLink4URL: https://datasheet.ciiva.com/1669/sn74lv4051a-1669786.pdf?src-supplier=Digikey; ComponentLink4Description: https://datasheet.ciiva.com/1669/sn74lv4051a-1669786.pdf?src-supplier=Digikey; ComponentLink5URL: https://datasheet.ciiva.com/1669/sn74lv4051a-1669787.pdf?src-supplier=Digikey; ComponentLink5Description: https://datasheet.ciiva.com/1669/sn74lv4051a-1669787.pdf?src-supplier=Digikey; ComponentLink6URL: https://datasheet.ciiva.com/1669/sn74lv4051a-1669788.pdf?src-supplier=Digikey; ComponentLink6Description: https://datasheet.ciiva.com/1669/sn74lv4051a-1669788.pdf?src-supplier=Digikey; ComponentLink7URL: https://datasheet.ciiva.com/2980/sn74lv4051a-2980182.pdf?src-supplier=Avnet; ComponentLink7Description: https://datasheet.ciiva.com/2980/sn74lv4051a-2980182.pdf?src-supplier=Avnet; ComponentLink8URL: https://datasheet.ciiva.com/48711/001048021-da-01-en-ic-de-mux-8x-sn74lv4051apwr-tssop-16-tid-48711975.pdf?src-supplier=Conrad; ComponentLink8Description: https://datasheet.ciiva.com/48711/001048021-da-01-en-ic-de-mux-8x-sn74lv4051apwr-tssop-16-tid-48711975.pdf?src-supplier=Conrad
footprint 16-TSSOP MUX 8to1
pins: 1 Y4 (io), 2 Y6 (io), 3 COM (io), 4 Y7 (io), 5 Y5 (io), 6 INH (in), 7 GND (power), 8 GND (power), 9 C (in), 10 B (in), 11 A (in), 12 Y3 (io), 13 Y0 (io), 14 Y1 (io), 15 Y2 (io), 16 VCC (power)

## IC STM32L412CBT6
designator U?, comment STM32L412CBT6
RISC Microcontroller; Mfr_Name: STMicroelectronics; RefDes: RefDes; Type: Type; Supplier: Digikey; Supplier Part Number: 497-18227-ND; Manufacturer: STMicroelectronics; Manufacturer Part Number: STM32L412CBT6; RoHS: Yes; Category: Microcontrollers; Stock: 1307; Pricing: 1=3.88, 10=2.927, 25=2.6896, 100=2.4289, 250=2.30448, 500=2.2295, 1000=2.16779, 2500=2.10264 (USD); RoHS Compliant: Yes; ComponentLink1URL: https://datasheet.ciiva.com:443/pdfs/VipMasterIC/IC/SGST/SGST-S-A0007993151/SGST-S-A0009026353-1.pdf?src-supplier=IHS+Markit; ComponentLink1Description: https://datasheet.ciiva.com:443/pdfs/VipMasterIC/IC/SGST/SGST-S-A0007993151/SGST-S-A0009026353-1.pdf?src-supplier=IHS+Markit; ComponentLink2URL: http://www.farnell.com/datasheets/2710915.pdf?src-supplier=Farnell; ComponentLink2Description: http://www.farnell.com/datasheets/2710915.pdf?src-supplier=Farnell; ComponentLink3URL: https://www.st.com/resource/en/datasheet/stm32l412kb.pdf?src-supplier=Digikey; ComponentLink3Description: https://www.st.com/resource/en/datasheet/stm32l412kb.pdf?src-supplier=Digikey; ComponentLink4URL: https://datasheet.octopart.com/STM32L412CBT6-STMicroelectronics-datasheet-136158773.pdf?src-supplier=Future+Electronics; ComponentLink4Description: https://datasheet.octopart.com/STM32L412CBT6-STMicroelectronics-datasheet-136158773.pdf?src-supplier=Future+Electronics
footprint 48-LQFP
part A pins: 2 PC13 (io), 3 PC14-OSC32_IN (io), 4 PC15-OSC32_OUT (io), 5 PH0-OSC_IN (io), 6 PH1-OSC_OUT (io), 7 NRST (io), 10 PA0 (io), 11 PA1 (io), 12 PA2 (io), 13 PA3 (io), 14 PA4 (io), 15 PA5 (io), 16 PA6 (io), 17 PA7 (io), 18 PB0 (io), 19 PB1 (io), 20 PB2 (io), 21 PB10 (io), 22 PB11 (io), 25 PB12 (io), 26 PB13 (io), 27 PB14 (io), 28 PB15 (io), 29 PA8 (io), 30 PA9 (io), 31 PA10 (io), 32 PA11 (io), 33 PA12 (io), 34 PA13 (io), 37 PA14 (io), 38 PA15 (io), 39 PB3 (io), 40 PB4 (io), 41 PB5 (io), 42 PB6 (io), 43 PB7 (io), 44 PH3-BOOT0 (io), 45 PB8 (io), 46 PB9 (io)
part B pins: 1 VBAT (power), 8 VSSA/VREF- (power), 9 VDDA/VREF+ (power), 23 VSSA/VREF- (power), 24 VDDA/VREF+ (power), 35 VSS (power), 36 VDDUSB (power), 47 VSS (power), 48 VDD (power)
part B text: 2 of 2

## IC USB Dual ESD Protec IP4220CZ6,125
designator U?, comment IP4220CZ6,125
Trans Voltage Suppressor Diode, Unidirectional, 1 Element, Silicon; Manufacturer: Nexperia; Package Body Material: Plastic; Max Breakdown Voltage: 9V; Min Breakdown Voltage: 6V; Number of Elements: 1; Time @ Peak Reflow Temperature-Max (s): 30s; Supplier: Digikey; Supplier Part Number: 1727-3578-1-ND; Manufacturer Part Number: IP4220CZ6,125; RoHS: Yes; Category: TVS Diodes; Stock: 42341; Pricing: 1=0.28, 10=0.223, 100=0.172, 500=0.148, 1000=0.11031 (USD); Pins: 6; Diode Element Material: SILICON; Package Shape: Rectangular; Terminal Finish: Tin; JESD-609 Code: e3; Polarity: Unidirectional; Diode Type: TRANS VOLTAGE SUPPRESSOR; JESD-30 Code: R-PDSO-G6; Moisture Sensitivity Level: 1; Package Style: SMALL OUTLINEMeter; Peak Reflow Temperature (Cel): 260°C; Surface Mount: Yes; Technology: ZENER; Terminal Form: Gull Wing; Terminal Position: DUAL; Reach SVHC Compliant: Yes; RoHS Compliant: Yes; ComponentLink1URL: https://datasheet.ciiva.com:443/pdfs/VipMasterIC/IC/NEXP/NEXP-S-A0003060256/NEXP-S-A0003059736-1.pdf?src-supplier=IHS+Markit; ComponentLink1Description: https://datasheet.ciiva.com:443/pdfs/VipMasterIC/IC/NEXP/NEXP-S-A0003060256/NEXP-S-A0003059736-1.pdf?src-supplier=IHS+Markit; ComponentLink2URL: http://www.farnell.com/datasheets/1708221.pdf?src-supplier=Farnell; ComponentLink2Description: http://www.farnell.com/datasheets/1708221.pdf?src-supplier=Farnell; ComponentLink3URL: https://assets.nexperia.com/documents/data-sheet/IP4220CZ6.pdf?src-supplier=Digikey; ComponentLink3Description: https://assets.nexperia.com/documents/data-sheet/IP4220CZ6.pdf?src-supplier=Digikey
footprint SOT-457 USB ESD
pins: 1 I/O1, 2 GND, 3 I/O2, 4 I/O3, 5 Vp, 6 I/O4

## LEDARR 2973 9X16
designator DS?, comment LED Matrix
footprint LED Matrix 9x16 Charlie
part A pins: 1 CA1, 2 CA2, 3 CA3, 4 CA4, 5 CA5, 6 CA6, 7 CA7, 8 CA8, 9 CA9, 10 NC, 11 NC, 12 NC, 13 NC
part B pins: 14 NC, 15 NC, 16 NC, 17 NC, 18 CB1, 19 CB2, 20 CB3, 21 CB4, 22 CB5, 23 CB6, 24 CB7, 25 CB8, 26 CB9

## LS Buzzer CEM-1203(42)
designator LS?, comment CEM-1203(42)
Audio Signaling/Alarm Devices; Manufacturer: Same Sky; Supplier: Digikey; Supplier Part Number: 102-1153-ND; Manufacturer Part Number: CEM-1203(42); RoHS: Yes; Category: Buzzers; Stock: 15952; Pricing: 1=0.66, 10=0.538, 25=0.4956, 50=0.4658, 100=0.438, 250=0.40372, 500=0.37968, 1000=0.3588 (USD); ComponentLink1URL: https://www.cuidevices.com/product/resource/digikeypdf/cem-1203-42-.pdf?src-supplier=Digikey; ComponentLink1Description: https://www.cuidevices.com/product/resource/digikeypdf/cem-1203-42-.pdf?src-supplier=Digikey; ComponentLink2URL: https://datasheet.octopart.com/CEM-1203%2842%29-CUI-Devices-datasheet-175926661.pdf?src-supplier=Future+Electronics; ComponentLink2Description: https://datasheet.octopart.com/CEM-1203%2842%29-CUI-Devices-datasheet-175926661.pdf?src-supplier=Future+Electronics; ComponentLink3URL: https://datasheet.octopart.com/CEM-1203%2842%29-Same-Sky-datasheet-184673004.pdf?src-supplier=Electro+Sonic; ComponentLink3Description: https://datasheet.octopart.com/CEM-1203%2842%29-Same-Sky-datasheet-184673004.pdf?src-supplier=Electro+Sonic; ComponentLink4URL: https://datasheet.octopart.com/CEM-1203%2842%29-CUI-Devices-datasheet-175925305.pdf?src-supplier=Master+Electronics; ComponentLink4Description: https://datasheet.octopart.com/CEM-1203%2842%29-CUI-Devices-datasheet-175925305.pdf?src-supplier=Master+Electronics
footprint Buzzer CEM-1203(42)
pins: N, P
text: +; -

## MOS NMOS 20V 1A SOT323
designator Q?, comment NMOS
Small Signal Field-Effect Transistor, 1A I(D), 20V, 1-Element, N-Channel, Silicon, Metal-oxide Semiconductor FET; Manufacturer: Diodes Zetex; Manufacturer Part Number: DMG1012UW-7; Package Body Material: Plastic; Time @ Peak Reflow Temperature-Max (s): 40s; Additional Feature: HIGH RELIABILITY; Drain-source On Resistance-Max: 450mR; Number of Elements: 1; Operating Mode: ENHANCEMENT MODE; Power Dissipation-Max (Abs): 290mW; Transistor Application: SWITCHING; Reference Standard: AEC-Q101; Qualification Status: Not Qualified; Supplier: Digikey; Supplier Part Number: DMG1012UW-7DICT-ND; RoHS: Yes; Category: MOSFETs; Stock: 318650; Pricing: 1=0.28, 10=0.143, 100=0.0714, 500=0.06828 (USD); Pins: 3; Package Shape: Rectangular; Terminal Finish: Tin; Transistor Element Material: SILICON; Max Operating Temperature: 150°C; JESD-609 Code: e3; JESD-30 Code: R-PDSO-G3; Moisture Sensitivity Level: 1; Package Style: SMALL OUTLINEMeter; Peak Reflow Temperature (Cel): 260°C; Surface Mount: Yes; Terminal Form: Gull Wing; Terminal Position: DUAL; Polarity/Channel Type: N-CHANNEL; Drain Current-Max (Abs) (ID): 1A; Drain Current-Max (ID): 1A; DS Breakdown Voltage-Min: 20V; FET Technology: METAL-OXIDE SEMICONDUCTOR; Reach SVHC Compliant: Yes; RoHS Compliant: Yes; ComponentLink1URL: https://datasheet.ciiva.com:443/pdfs/VipMasterIC/IC/DIOD/DIOD-S-A0009689761/DIOD-S-A0009691185-1.pdf?src-supplier=IHS+Markit; ComponentLink1Description: https://datasheet.ciiva.com:443/pdfs/VipMasterIC/IC/DIOD/DIOD-S-A0009689761/DIOD-S-A0009691185-1.pdf?src-supplier=IHS+Markit; ComponentLink2URL: https://datasheet.ciiva.com/11174/ds31859-11174966.pdf?src-supplier=Avnet; ComponentLink2Description: https://datasheet.ciiva.com/11174/ds31859-11174966.pdf?src-supplier=Avnet; ComponentLink3URL: https://datasheet.ciiva.com/4443/ds31859-90313-4443117.pdf?src-supplier=Mouser; ComponentLink3Description: https://datasheet.ciiva.com/4443/ds31859-90313-4443117.pdf?src-supplier=Mouser; ComponentLink4URL: https://datasheet.ciiva.com/6383/ds31859-6383798.pdf?src-supplier=Digikey; ComponentLink4Description: https://datasheet.ciiva.com/6383/ds31859-6383798.pdf?src-supplier=Digikey; ComponentLink5URL: https://datasheet.ciiva.com/6383/ds31859-6383800.pdf?src-supplier=Digikey; ComponentLink5Description: https://datasheet.ciiva.com/6383/ds31859-6383800.pdf?src-supplier=Digikey
footprint SOT-323 MOS
pins: 1 G, 2 D, 3 S